# Altium footprint library 接插件.PcbLib: 193 footprints (part 4 of 13)
Each footprint in its own frame and in the unit in brackets; x right, y up, seen from the top. Pads: shape width x height; smd on the part's side, far side on the other; paste and mask are expansions set on the pad; w line width, h text height; cw(c..) or ccw(c..) is an arc to the next point about the centre after c.
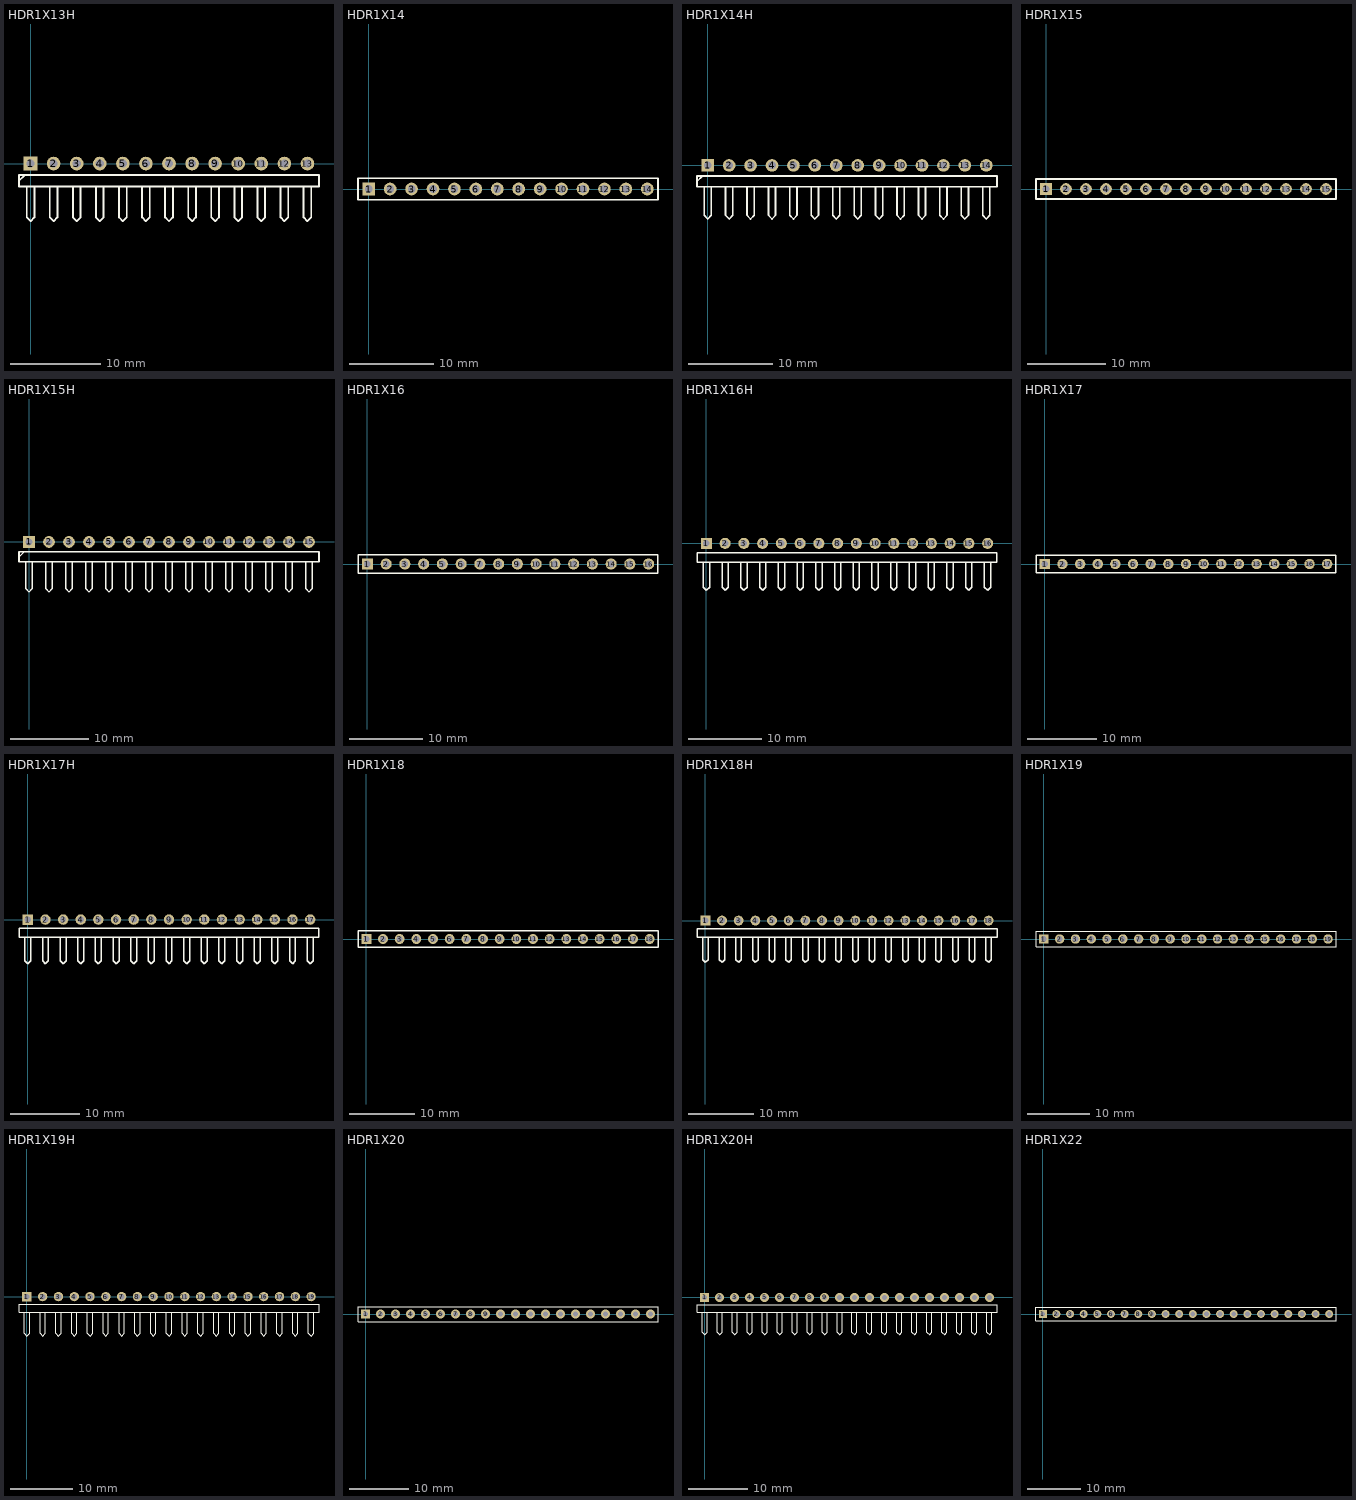
[diagram p3: the footprints below, top view; thin cyan lines are the x and y axes]

## HDR1X13H [mm] "Connector; Header; 13 Position; Right Angle"
pads (13):
  rect 1.5x1.5 hole 0.9: 1(0,0)
  round 1.5 hole 0.9: 2(2.54,0) 3(5.08,0) 4(7.62,0) 5(10.16,0) 6(12.7,0) 7(15.24,0) 8(17.78,0) 9(20.32,0) 10(22.86,0) 11(25.4,0) 12(27.94,0) 13(30.48,0)
Top Overlay:
  lines w0.2: -1.27,-1.905 -0.635,-1.27 ; -0.423,-2.54 -0.423,-5.927 0,-6.35 0.423,-5.927 0.423,-2.54 ; 2.117,-2.54 2.117,-5.927 2.54,-6.35 2.963,-5.927 2.963,-2.54 ; 4.657,-2.54 4.657,-5.927 5.08,-6.35 5.503,-5.927 5.503,-2.54 ; 7.197,-2.54 7.197,-5.927 7.62,-6.35 8.043,-5.927 8.043,-2.54 ; 9.737,-2.54 9.737,-5.927 10.16,-6.35 10.583,-5.927 10.583,-2.54 ; 12.277,-2.54 12.277,-5.927 12.7,-6.35 13.123,-5.927 13.123,-2.54 ; 14.817,-2.54 14.817,-5.927 15.24,-6.35 15.663,-5.927 15.663,-2.54 ; 17.357,-2.54 17.357,-5.927 17.78,-6.35 18.203,-5.927 18.203,-2.54 ; 19.897,-2.54 19.897,-5.927 20.32,-6.35 20.743,-5.927 20.743,-2.54 ; 22.437,-2.54 22.437,-5.927 22.86,-6.35 23.283,-5.927 23.283,-2.54 ; 24.977,-2.54 24.977,-5.927 25.4,-6.35 25.823,-5.927 25.823,-2.54 ; 27.517,-2.54 27.517,-5.927 27.94,-6.35 28.363,-5.927 28.363,-2.54 ; 30.057,-2.54 30.057,-5.927 30.48,-6.35 30.903,-5.927 30.903,-2.54 ; -1.27,-2.54 31.75,-2.54 31.75,-1.27 0.635,-1.27 -1.27,-1.27 -1.27,-2.54

## HDR1X14 [mm] "Connector; Header; 14 Position"
pads (14):
  rect 1.5x1.5 hole 0.9: 1(0,0)
  round 1.5 hole 0.9: 2(2.54,0) 3(5.08,0) 4(7.62,0) 5(10.16,0) 6(12.7,0) 7(15.24,0) 8(17.78,0) 9(20.32,0) 10(22.86,0) 11(25.4,0) 12(27.94,0) 13(30.48,0) 14(33.02,0)
Top Overlay:
  lines w0.2: -1.27,-1.27 34.29,-1.27 34.29,1.27 0.635,1.27 -1.27,1.27 -1.27,-1.27

## HDR1X14H [mm] "Connector; Header; 14 Position; Right Angle"
pads (14):
  rect 1.5x1.5 hole 0.9: 1(0,0)
  round 1.5 hole 0.9: 2(2.54,0) 3(5.08,0) 4(7.62,0) 5(10.16,0) 6(12.7,0) 7(15.24,0) 8(17.78,0) 9(20.32,0) 10(22.86,0) 11(25.4,0) 12(27.94,0) 13(30.48,0) 14(33.02,0)
Top Overlay:
  lines w0.2: -1.27,-1.905 -0.635,-1.27 ; -0.423,-2.54 -0.423,-5.927 0,-6.35 0.423,-5.927 0.423,-2.54 ; 2.117,-2.54 2.117,-5.927 2.54,-6.35 2.963,-5.927 2.963,-2.54 ; 4.657,-2.54 4.657,-5.927 5.08,-6.35 5.503,-5.927 5.503,-2.54 ; 7.197,-2.54 7.197,-5.927 7.62,-6.35 8.043,-5.927 8.043,-2.54 ; 9.737,-2.54 9.737,-5.927 10.16,-6.35 10.583,-5.927 10.583,-2.54 ; 12.277,-2.54 12.277,-5.927 12.7,-6.35 13.123,-5.927 13.123,-2.54 ; 14.817,-2.54 14.817,-5.927 15.24,-6.35 15.663,-5.927 15.663,-2.54 ; 17.357,-2.54 17.357,-5.927 17.78,-6.35 18.203,-5.927 18.203,-2.54 ; 19.897,-2.54 19.897,-5.927 20.32,-6.35 20.743,-5.927 20.743,-2.54 ; 22.437,-2.54 22.437,-5.927 22.86,-6.35 23.283,-5.927 23.283,-2.54 ; 24.977,-2.54 24.977,-5.927 25.4,-6.35 25.823,-5.927 25.823,-2.54 ; 27.517,-2.54 27.517,-5.927 27.94,-6.35 28.363,-5.927 28.363,-2.54 ; 30.057,-2.54 30.057,-5.927 30.48,-6.35 30.903,-5.927 30.903,-2.54 ; 32.597,-2.54 32.597,-5.927 33.02,-6.35 33.443,-5.927 33.443,-2.54 ; -1.27,-2.54 34.29,-2.54 34.29,-1.27 0.635,-1.27 -1.27,-1.27 -1.27,-2.54

## HDR1X15 [mm] "Connector; Header; 15 Position"
pads (15):
  rect 1.5x1.5 hole 0.9: 1(0,0)
  round 1.5 hole 0.9: 2(2.54,0) 3(5.08,0) 4(7.62,0) 5(10.16,0) 6(12.7,0) 7(15.24,0) 8(17.78,0) 9(20.32,0) 10(22.86,0) 11(25.4,0) 12(27.94,0) 13(30.48,0) 14(33.02,0) 15(35.56,0)
Top Overlay:
  lines w0.2: -1.27,-1.27 36.83,-1.27 36.83,1.27 0.635,1.27 -1.27,1.27 -1.27,-1.27

## HDR1X15H [mm] "Connector; Header; 15 Position; Right Angle"
pads (15):
  rect 1.5x1.5 hole 0.9: 1(0,0)
  round 1.5 hole 0.9: 2(2.54,0) 3(5.08,0) 4(7.62,0) 5(10.16,0) 6(12.7,0) 7(15.24,0) 8(17.78,0) 9(20.32,0) 10(22.86,0) 11(25.4,0) 12(27.94,0) 13(30.48,0) 14(33.02,0) 15(35.56,0)
Top Overlay:
  lines w0.2: -1.27,-1.905 -0.635,-1.27 ; -0.423,-2.54 -0.423,-5.927 0,-6.35 0.423,-5.927 0.423,-2.54 ; 2.117,-2.54 2.117,-5.927 2.54,-6.35 2.963,-5.927 2.963,-2.54 ; 4.657,-2.54 4.657,-5.927 5.08,-6.35 5.503,-5.927 5.503,-2.54 ; 7.197,-2.54 7.197,-5.927 7.62,-6.35 8.043,-5.927 8.043,-2.54 ; 9.737,-2.54 9.737,-5.927 10.16,-6.35 10.583,-5.927 10.583,-2.54 ; 12.277,-2.54 12.277,-5.927 12.7,-6.35 13.123,-5.927 13.123,-2.54 ; 14.817,-2.54 14.817,-5.927 15.24,-6.35 15.663,-5.927 15.663,-2.54 ; 17.357,-2.54 17.357,-5.927 17.78,-6.35 18.203,-5.927 18.203,-2.54 ; 19.897,-2.54 19.897,-5.927 20.32,-6.35 20.743,-5.927 20.743,-2.54 ; 22.437,-2.54 22.437,-5.927 22.86,-6.35 23.283,-5.927 23.283,-2.54 ; 24.977,-2.54 24.977,-5.927 25.4,-6.35 25.823,-5.927 25.823,-2.54 ; 27.517,-2.54 27.517,-5.927 27.94,-6.35 28.363,-5.927 28.363,-2.54 ; 30.057,-2.54 30.057,-5.927 30.48,-6.35 30.903,-5.927 30.903,-2.54 ; 32.597,-2.54 32.597,-5.927 33.02,-6.35 33.443,-5.927 33.443,-2.54 ; 35.137,-2.54 35.137,-5.927 35.56,-6.35 35.983,-5.927 35.983,-2.54 ; -1.27,-2.54 36.83,-2.54 36.83,-1.27 0.635,-1.27 -1.27,-1.27 -1.27,-2.54

## HDR1X16 [mm] "Connector; Header; 16 Position"
pads (16):
  rect 1.5x1.5 hole 0.9: 1(0,0)
  round 1.5 hole 0.9: 2(2.54,0) 3(5.08,0) 4(7.62,0) 5(10.16,0) 6(12.7,0) 7(15.24,0) 8(17.78,0) 9(20.32,0) 10(22.86,0) 11(25.4,0) 12(27.94,0) 13(30.48,0) 14(33.02,0) 15(35.56,0) 16(38.1,0)
Top Overlay:
  lines w0.2: -1.27,-1.27 39.37,-1.27 39.37,1.27 0.635,1.27 -1.27,1.27 -1.27,-1.27

## HDR1X16H [mm] "Connector; Header; 16 Position; Right Angle"
pads (16):
  rect 1.5x1.5 hole 0.9: 1(0,0)
  round 1.5 hole 0.9: 2(2.54,0) 3(5.08,0) 4(7.62,0) 5(10.16,0) 6(12.7,0) 7(15.24,0) 8(17.78,0) 9(20.32,0) 10(22.86,0) 11(25.4,0) 12(27.94,0) 13(30.48,0) 14(33.02,0) 15(35.56,0) 16(38.1,0)
Top Overlay:
  lines w0.2: -0.423,-2.54 -0.423,-5.927 0,-6.35 0.423,-5.927 0.423,-2.54 ; 2.117,-2.54 2.117,-5.927 2.54,-6.35 2.963,-5.927 2.963,-2.54 ; 4.657,-2.54 4.657,-5.927 5.08,-6.35 5.503,-5.927 5.503,-2.54 ; 7.197,-2.54 7.197,-5.927 7.62,-6.35 8.043,-5.927 8.043,-2.54 ; 9.737,-2.54 9.737,-5.927 10.16,-6.35 10.583,-5.927 10.583,-2.54 ; 12.277,-2.54 12.277,-5.927 12.7,-6.35 13.123,-5.927 13.123,-2.54 ; 14.817,-2.54 14.817,-5.927 15.24,-6.35 15.663,-5.927 15.663,-2.54 ; 17.357,-2.54 17.357,-5.927 17.78,-6.35 18.203,-5.927 18.203,-2.54 ; 19.897,-2.54 19.897,-5.927 20.32,-6.35 20.743,-5.927 20.743,-2.54 ; 22.437,-2.54 22.437,-5.927 22.86,-6.35 23.283,-5.927 23.283,-2.54 ; 24.977,-2.54 24.977,-5.927 25.4,-6.35 25.823,-5.927 25.823,-2.54 ; 27.517,-2.54 27.517,-5.927 27.94,-6.35 28.363,-5.927 28.363,-2.54 ; 30.057,-2.54 30.057,-5.927 30.48,-6.35 30.903,-5.927 30.903,-2.54 ; 32.597,-2.54 32.597,-5.927 33.02,-6.35 33.443,-5.927 33.443,-2.54 ; 35.137,-2.54 35.137,-5.927 35.56,-6.35 35.983,-5.927 35.983,-2.54 ; 37.677,-2.54 37.677,-5.927 38.1,-6.35 38.523,-5.927 38.523,-2.54 ; -1.27,-2.54 -1.27,-1.27 0.635,-1.27 39.37,-1.27 39.37,-2.54 -1.27,-2.54

## HDR1X17 [mm] "Connector; Header; 17 Position"
pads (17):
  rect 1.5x1.5 hole 0.9: 1(0,0)
  round 1.5 hole 0.9: 2(2.54,0) 3(5.08,0) 4(7.62,0) 5(10.16,0) 6(12.7,0) 7(15.24,0) 8(17.78,0) 9(20.32,0) 10(22.86,0) 11(25.4,0) 12(27.94,0) 13(30.48,0) 14(33.02,0) 15(35.56,0) 16(38.1,0) 17(40.64,0)
Top Overlay:
  lines w0.2: -1.27,-1.27 -1.27,1.27 0.635,1.27 41.91,1.27 41.91,-1.27 -1.27,-1.27

## HDR1X17H [mm] "Connector; Header; 17 Position; Right Angle"
pads (17):
  rect 1.5x1.5 hole 0.9: 1(0,0)
  round 1.5 hole 0.9: 2(2.54,0) 3(5.08,0) 4(7.62,0) 5(10.16,0) 6(12.7,0) 7(15.24,0) 8(17.78,0) 9(20.32,0) 10(22.86,0) 11(25.4,0) 12(27.94,0) 13(30.48,0) 14(33.02,0) 15(35.56,0) 16(38.1,0) 17(40.64,0)
Top Overlay:
  lines w0.2: -0.423,-2.54 -0.423,-5.927 0,-6.35 0.423,-5.927 0.423,-2.54 ; 2.117,-2.54 2.117,-5.927 2.54,-6.35 2.963,-5.927 2.963,-2.54 ; 4.657,-2.54 4.657,-5.927 5.08,-6.35 5.503,-5.927 5.503,-2.54 ; 7.197,-2.54 7.197,-5.927 7.62,-6.35 8.043,-5.927 8.043,-2.54 ; 9.737,-2.54 9.737,-5.927 10.16,-6.35 10.583,-5.927 10.583,-2.54 ; 12.277,-2.54 12.277,-5.927 12.7,-6.35 13.123,-5.927 13.123,-2.54 ; 14.817,-2.54 14.817,-5.927 15.24,-6.35 15.663,-5.927 15.663,-2.54 ; 17.357,-2.54 17.357,-5.927 17.78,-6.35 18.203,-5.927 18.203,-2.54 ; 19.897,-2.54 19.897,-5.927 20.32,-6.35 20.743,-5.927 20.743,-2.54 ; 22.437,-2.54 22.437,-5.927 22.86,-6.35 23.283,-5.927 23.283,-2.54 ; 24.977,-2.54 24.977,-5.927 25.4,-6.35 25.823,-5.927 25.823,-2.54 ; 27.517,-2.54 27.517,-5.927 27.94,-6.35 28.363,-5.927 28.363,-2.54 ; 30.057,-2.54 30.057,-5.927 30.48,-6.35 30.903,-5.927 30.903,-2.54 ; 32.597,-2.54 32.597,-5.927 33.02,-6.35 33.443,-5.927 33.443,-2.54 ; 35.137,-2.54 35.137,-5.927 35.56,-6.35 35.983,-5.927 35.983,-2.54 ; 37.677,-2.54 37.677,-5.927 38.1,-6.35 38.523,-5.927 38.523,-2.54 ; 40.217,-2.54 40.217,-5.927 40.64,-6.35 41.063,-5.927 41.063,-2.54 ; -1.27,-2.54 -1.27,-1.27 0.635,-1.27 41.91,-1.27 41.91,-2.54 -1.27,-2.54

## HDR1X18 [mm] "Connector; Header; 18 Position"
pads (18):
  rect 1.5x1.5 hole 0.9: 1(0,0)
  round 1.5 hole 0.9: 2(2.54,0) 3(5.08,0) 4(7.62,0) 5(10.16,0) 6(12.7,0) 7(15.24,0) 8(17.78,0) 9(20.32,0) 10(22.86,0) 11(25.4,0) 12(27.94,0) 13(30.48,0) 14(33.02,0) 15(35.56,0) 16(38.1,0) 17(40.64,0) 18(43.18,0)
Top Overlay:
  lines w0.2: -1.27,-1.27 -1.27,1.27 0.635,1.27 44.45,1.27 44.45,-1.27 -1.27,-1.27

## HDR1X18H [mm] "Connector; Header; 18 Position; Right Angle"
pads (18):
  rect 1.5x1.5 hole 0.9: 1(0,0)
  round 1.5 hole 0.9: 2(2.54,0) 3(5.08,0) 4(7.62,0) 5(10.16,0) 6(12.7,0) 7(15.24,0) 8(17.78,0) 9(20.32,0) 10(22.86,0) 11(25.4,0) 12(27.94,0) 13(30.48,0) 14(33.02,0) 15(35.56,0) 16(38.1,0) 17(40.64,0) 18(43.18,0)
Top Overlay:
  lines w0.2: -0.423,-2.54 -0.423,-5.927 0,-6.35 0.423,-5.927 0.423,-2.54 ; 2.117,-2.54 2.117,-5.927 2.54,-6.35 2.963,-5.927 2.963,-2.54 ; 4.657,-2.54 4.657,-5.927 5.08,-6.35 5.503,-5.927 5.503,-2.54 ; 7.197,-2.54 7.197,-5.927 7.62,-6.35 8.043,-5.927 8.043,-2.54 ; 9.737,-2.54 9.737,-5.927 10.16,-6.35 10.583,-5.927 10.583,-2.54 ; 12.277,-2.54 12.277,-5.927 12.7,-6.35 13.123,-5.927 13.123,-2.54 ; 14.817,-2.54 14.817,-5.927 15.24,-6.35 15.663,-5.927 15.663,-2.54 ; 17.357,-2.54 17.357,-5.927 17.78,-6.35 18.203,-5.927 18.203,-2.54 ; 19.897,-2.54 19.897,-5.927 20.32,-6.35 20.743,-5.927 20.743,-2.54 ; 22.437,-2.54 22.437,-5.927 22.86,-6.35 23.283,-5.927 23.283,-2.54 ; 24.977,-2.54 24.977,-5.927 25.4,-6.35 25.823,-5.927 25.823,-2.54 ; 27.517,-2.54 27.517,-5.927 27.94,-6.35 28.363,-5.927 28.363,-2.54 ; 30.057,-2.54 30.057,-5.927 30.48,-6.35 30.903,-5.927 30.903,-2.54 ; 32.597,-2.54 32.597,-5.927 33.02,-6.35 33.443,-5.927 33.443,-2.54 ; 35.137,-2.54 35.137,-5.927 35.56,-6.35 35.983,-5.927 35.983,-2.54 ; 37.677,-2.54 37.677,-5.927 38.1,-6.35 38.523,-5.927 38.523,-2.54 ; 40.217,-2.54 40.217,-5.927 40.64,-6.35 41.063,-5.927 41.063,-2.54 ; 42.757,-2.54 42.757,-5.927 43.18,-6.35 43.603,-5.927 43.603,-2.54 ; -1.27,-2.54 44.45,-2.54 44.45,-1.27 0.635,-1.27 -1.27,-1.27 -1.27,-2.54

## HDR1X19 [mm] "Connector; Header; 19 Position"
pads (19):
  rect 1.5x1.5 hole 0.9: 1(0,0)
  round 1.5 hole 0.9: 2(2.54,0) 3(5.08,0) 4(7.62,0) 5(10.16,0) 6(12.7,0) 7(15.24,0) 8(17.78,0) 9(20.32,0) 10(22.86,0) 11(25.4,0) 12(27.94,0) 13(30.48,0) 14(33.02,0) 15(35.56,0) 16(38.1,0) 17(40.64,0) 18(43.18,0) 19(45.72,0)
Top Overlay:
  lines w0.2: 37.465,1.27 37.677,1.27 ; -1.27,-1.27 46.99,-1.27 46.99,1.27 0.635,1.27 -1.27,1.27 -1.27,-1.27

## HDR1X19H [mm] "Connector; Header; 19 Position; Right Angle"
pads (19):
  rect 1.5x1.5 hole 0.9: 1(0,0)
  round 1.5 hole 0.9: 2(2.54,0) 3(5.08,0) 4(7.62,0) 5(10.16,0) 6(12.7,0) 7(15.24,0) 8(17.78,0) 9(20.32,0) 10(22.86,0) 11(25.4,0) 12(27.94,0) 13(30.48,0) 14(33.02,0) 15(35.56,0) 16(38.1,0) 17(40.64,0) 18(43.18,0) 19(45.72,0)
Top Overlay:
  lines w0.2: -0.423,-2.54 -0.423,-5.927 0,-6.35 0.423,-5.927 0.423,-2.54 ; 2.117,-2.54 2.117,-5.927 2.54,-6.35 2.963,-5.927 2.963,-2.54 ; 4.657,-2.54 4.657,-5.927 5.08,-6.35 5.503,-5.927 5.503,-2.54 ; 7.197,-2.54 7.197,-5.927 7.62,-6.35 8.043,-5.927 8.043,-2.54 ; 9.737,-2.54 9.737,-5.927 10.16,-6.35 10.583,-5.927 10.583,-2.54 ; 12.277,-2.54 12.277,-5.927 12.7,-6.35 13.123,-5.927 13.123,-2.54 ; 14.817,-2.54 14.817,-5.927 15.24,-6.35 15.663,-5.927 15.663,-2.54 ; 17.357,-2.54 17.357,-5.927 17.78,-6.35 18.203,-5.927 18.203,-2.54 ; 19.897,-2.54 19.897,-5.927 20.32,-6.35 20.743,-5.927 20.743,-2.54 ; 22.437,-2.54 22.437,-5.927 22.86,-6.35 23.283,-5.927 23.283,-2.54 ; 24.977,-2.54 24.977,-5.927 25.4,-6.35 25.823,-5.927 25.823,-2.54 ; 27.517,-2.54 27.517,-5.927 27.94,-6.35 28.363,-5.927 28.363,-2.54 ; 30.057,-2.54 30.057,-5.927 30.48,-6.35 30.903,-5.927 30.903,-2.54 ; 32.597,-2.54 32.597,-5.927 33.02,-6.35 33.443,-5.927 33.443,-2.54 ; 35.137,-2.54 35.137,-5.927 35.56,-6.35 35.983,-5.927 35.983,-2.54 ; 37.677,-2.54 37.677,-5.927 38.1,-6.35 38.523,-5.927 38.523,-2.54 ; 40.217,-2.54 40.217,-5.927 40.64,-6.35 41.063,-5.927 41.063,-2.54 ; 42.757,-2.54 42.757,-5.927 43.18,-6.35 43.603,-5.927 43.603,-2.54 ; 45.297,-2.54 45.297,-5.927 45.72,-6.35 46.143,-5.927 46.143,-2.54 ; -1.27,-2.54 46.99,-2.54 46.99,-1.27 0.635,-1.27 -1.27,-1.27 -1.27,-2.54

## HDR1X20 [mm] "Connector; Header; 20 Position"
pads (20):
  rect 1.5x1.5 hole 0.9: 1(0,0)
  round 1.5 hole 0.9: 2(2.54,0) 3(5.08,0) 4(7.62,0) 5(10.16,0) 6(12.7,0) 7(15.24,0) 8(17.78,0) 9(20.32,0) 10(22.86,0) 11(25.4,0) 12(27.94,0) 13(30.48,0) 14(33.02,0) 15(35.56,0) 16(38.1,0) 17(40.64,0) 18(43.18,0) 19(45.72,0) 20(48.26,0)
Top Overlay:
  lines w0.2: -1.27,-1.27 49.53,-1.27 49.53,1.27 0.635,1.27 -1.27,1.27 -1.27,-1.27

## HDR1X20H [mm] "Connector; Header; 20 Position; Right Angle"
pads (20):
  rect 1.5x1.5 hole 0.9: 1(0,0)
  round 1.5 hole 0.9: 2(2.54,0) 3(5.08,0) 4(7.62,0) 5(10.16,0) 6(12.7,0) 7(15.24,0) 8(17.78,0) 9(20.32,0) 10(22.86,0) 11(25.4,0) 12(27.94,0) 13(30.48,0) 14(33.02,0) 15(35.56,0) 16(38.1,0) 17(40.64,0) 18(43.18,0) 19(45.72,0) 20(48.26,0)
Top Overlay:
  lines w0.2: -0.423,-2.54 -0.423,-5.927 0,-6.35 0.423,-5.927 0.423,-2.54 ; 2.117,-2.54 2.117,-5.927 2.54,-6.35 2.963,-5.927 2.963,-2.54 ; 4.657,-2.54 4.657,-5.927 5.08,-6.35 5.503,-5.927 5.503,-2.54 ; 7.197,-2.54 7.197,-5.927 7.62,-6.35 8.043,-5.927 8.043,-2.54 ; 9.737,-2.54 9.737,-5.927 10.16,-6.35 10.583,-5.927 10.583,-2.54 ; 12.277,-2.54 12.277,-5.927 12.7,-6.35 13.123,-5.927 13.123,-2.54 ; 14.817,-2.54 14.817,-5.927 15.24,-6.35 15.663,-5.927 15.663,-2.54 ; 17.357,-2.54 17.357,-5.927 17.78,-6.35 18.203,-5.927 18.203,-2.54 ; 19.897,-2.54 19.897,-5.927 20.32,-6.35 20.743,-5.927 20.743,-2.54 ; 22.437,-2.54 22.437,-5.927 22.86,-6.35 23.283,-5.927 23.283,-2.54 ; 24.977,-2.54 24.977,-5.927 25.4,-6.35 25.823,-5.927 25.823,-2.54 ; 27.517,-2.54 27.517,-5.927 27.94,-6.35 28.363,-5.927 28.363,-2.54 ; 30.057,-2.54 30.057,-5.927 30.48,-6.35 30.903,-5.927 30.903,-2.54 ; 32.597,-2.54 32.597,-5.927 33.02,-6.35 33.443,-5.927 33.443,-2.54 ; 35.137,-2.54 35.137,-5.927 35.56,-6.35 35.983,-5.927 35.983,-2.54 ; 37.677,-2.54 37.677,-5.927 38.1,-6.35 38.523,-5.927 38.523,-2.54 ; 40.217,-2.54 40.217,-5.927 40.64,-6.35 41.063,-5.927 41.063,-2.54 ; 42.757,-2.54 42.757,-5.927 43.18,-6.35 43.603,-5.927 43.603,-2.54 ; 45.297,-2.54 45.297,-5.927 45.72,-6.35 46.143,-5.927 46.143,-2.54 ; 47.837,-2.54 47.837,-5.927 48.26,-6.35 48.683,-5.927 48.683,-2.54 ; -1.27,-2.54 -1.27,-1.27 0.635,-1.27 49.53,-1.27 49.53,-2.54 -1.27,-2.54

## HDR1X22 [mm] "Connector; Header; 22 Position"
pads (22):
  rect 1.5x1.5 hole 0.9: 1(0,0)
  round 1.5 hole 0.9: 2(2.54,0) 3(5.08,0) 4(7.62,0) 5(10.16,0) 6(12.7,0) 7(15.24,0) 8(17.78,0) 9(20.32,0) 10(22.86,0) 11(25.4,0) 12(27.94,0) 13(30.48,0) 14(33.02,0) 15(35.56,0) 16(38.1,0) 17(40.64,0) 18(43.18,0) 19(45.72,0) 20(48.26,0) 21(50.8,0) 22(53.34,0)
Top Overlay:
  lines w0.2: -1.27,-1.27 54.61,-1.27 54.61,1.27 0.635,1.27 -1.27,1.27 -1.27,-1.27